# Altium footprint library CAPAE830X1050D900L295X90N.PcbLib: 1 footprints
Each footprint in its own frame and in the unit in brackets; x right, y up, seen from the top. Pads: shape width x height; smd on the part's side, far side on the other; paste and mask are expansions set on the pad; w line width, h text height; cw(c..) or ccw(c..) is an arc to the next point about the centre after c.
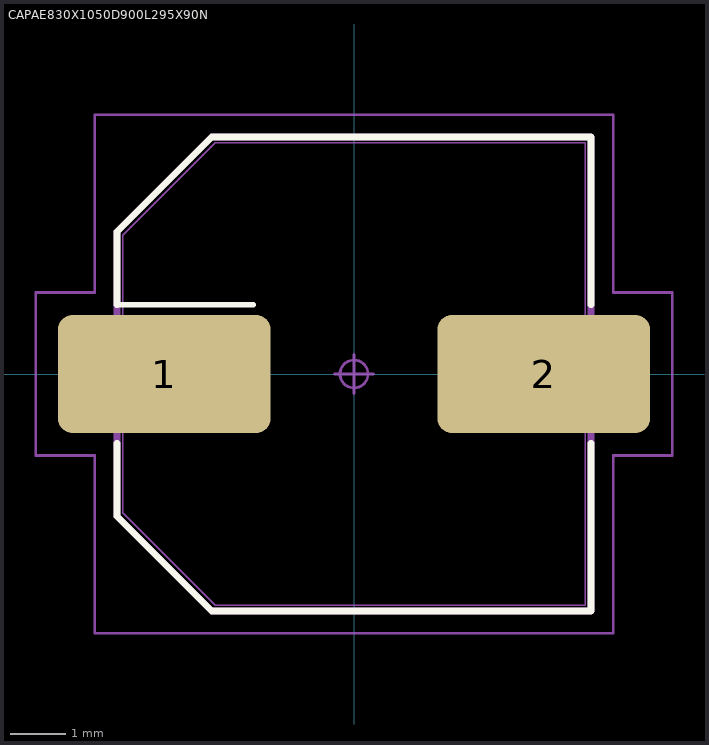
[diagram p0: the footprint, top view; thin cyan lines are the x and y axes]

## CAPAE830X1050D900L295X90N [mm] "Capacitor, Aluminum Electrolytic; 8.30 mm L X 8.30 mm W X 10.50 mm H body"
height 10.5
pads (2):
  rrect24% 3.81x2.12 smd: 1(-3.4,0) 2(3.4,0)
Top Overlay:
  lines w0.1: -4.25,1.24 -1.808,1.24
  lines w0.12: -4.25,-1.24 -4.25,-2.55 -2.55,-4.25 4.25,-4.25 4.25,-1.24 ; -4.25,1.24 -4.25,2.55 -2.55,4.25 4.25,4.25 4.25,1.24
Mechanical 3:
  lines w0.12: -4.25,-2.55 -4.25,2.55 -2.55,4.25 4.25,4.25 4.25,-4.25 -2.55,-4.25 -4.25,-2.55
Mechanical 5:
  lines w0.025: -4.5,-0.45 -4.5,0.45 -1.55,0.45 -1.55,-0.45 -4.5,-0.45 ; -4.15,-2.49 -4.15,2.49 -2.49,4.15 4.15,4.15 4.15,-4.15 -2.49,-4.15 -4.15,-2.49 ; 1.55,-0.45 4.5,-0.45 4.5,0.45 1.55,0.45 1.55,-0.45
Mechanical 7:
  circle w0.05: c0,0 r0.25
  lines w0.05: -0.35,0 0.35,0 ; 0,-0.35 0,0.35 ; -5.705,-1.46 -4.65,-1.46 -4.65,-4.65 4.65,-4.65 4.65,-1.46 5.705,-1.46 5.705,1.46 4.65,1.46 4.65,4.65 -4.65,4.65 -4.65,1.46 -5.705,1.46 -5.705,-1.46
Mechanical 9:
  text "'.Designator'" at -5.461,-0.762 h1
3D body "CAPAE830X1050D900L295X90.STEP": height 10.5, standoff 0, extent -4.5,-4.15 4.5,4.15
3D body: height 1.04, standoff 0, extent -5.705,-4.65 5.705,4.65